# Altium footprint library IND_VLCF4028T-150MR88-2.PcbLib: 1 footprints
Each footprint in its own frame and in the unit in brackets; x right, y up, seen from the top. Pads: shape width x height; smd on the part's side, far side on the other; paste and mask are expansions set on the pad; w line width, h text height; cw(c..) or ccw(c..) is an arc to the next point about the centre after c.
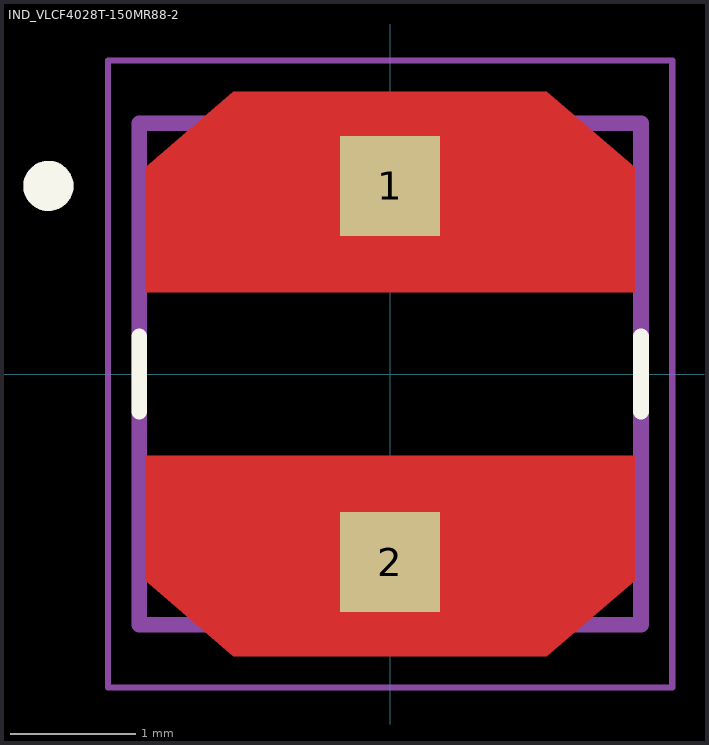
[diagram p0: the footprint, top view; thin cyan lines are the x and y axes]

## IND_VLCF4028T-150MR88-2 [mm]
height 2
pads (2):
  rect 0.8x0.8 smd paste-1 mask+0: 1(0,1.5) 2(0,-1.5)
Top Layer:
  region: 1.95,1.65 1.95,0.65 -1.95,0.65 -1.95,1.65 -1.25,2.25 1.25,2.25
  region: 1.95,-1.65 1.25,-2.25 -1.25,-2.25 -1.95,-1.65 -1.95,-0.65 1.95,-0.65
Top Overlay:
  circle w0.2: c-2.725,1.5 r0.1
  lines w0.127: -2,-0.3 -2,0.3 ; 2,-0.3 2,0.3
Top Paste:
  region: 1.95,1.65 1.95,0.65 -1.95,0.65 -1.95,1.65 -1.25,2.25 1.25,2.25
  region: 1.95,-1.65 1.25,-2.25 -1.25,-2.25 -1.95,-1.65 -1.95,-0.65 1.95,-0.65
Top Solder:
  region: 2.05,1.7 2.05,0.55 -2.05,0.55 -2.05,1.7 -1.3,2.35 1.3,2.35
  region: 2.05,-1.7 1.3,-2.35 -1.3,-2.35 -2.05,-1.7 -2.05,-0.55 2.05,-0.55
Mechanical 13:
  circle w0.2: c-2.725,1.5 r0.1
  lines w0.127: -2,-2 -2,2 2,2 2,-2 -2,-2
Mechanical 15:
  lines w0.05: -2.25,-2.5 -2.25,2.5 2.25,2.5 2.25,-2.5 -2.25,-2.5
3D body "step_temp.STEP": height 2.8, standoff 0, extent -2,-2 2,2